# EAGLE library part ZOE-M8G (library ublox)
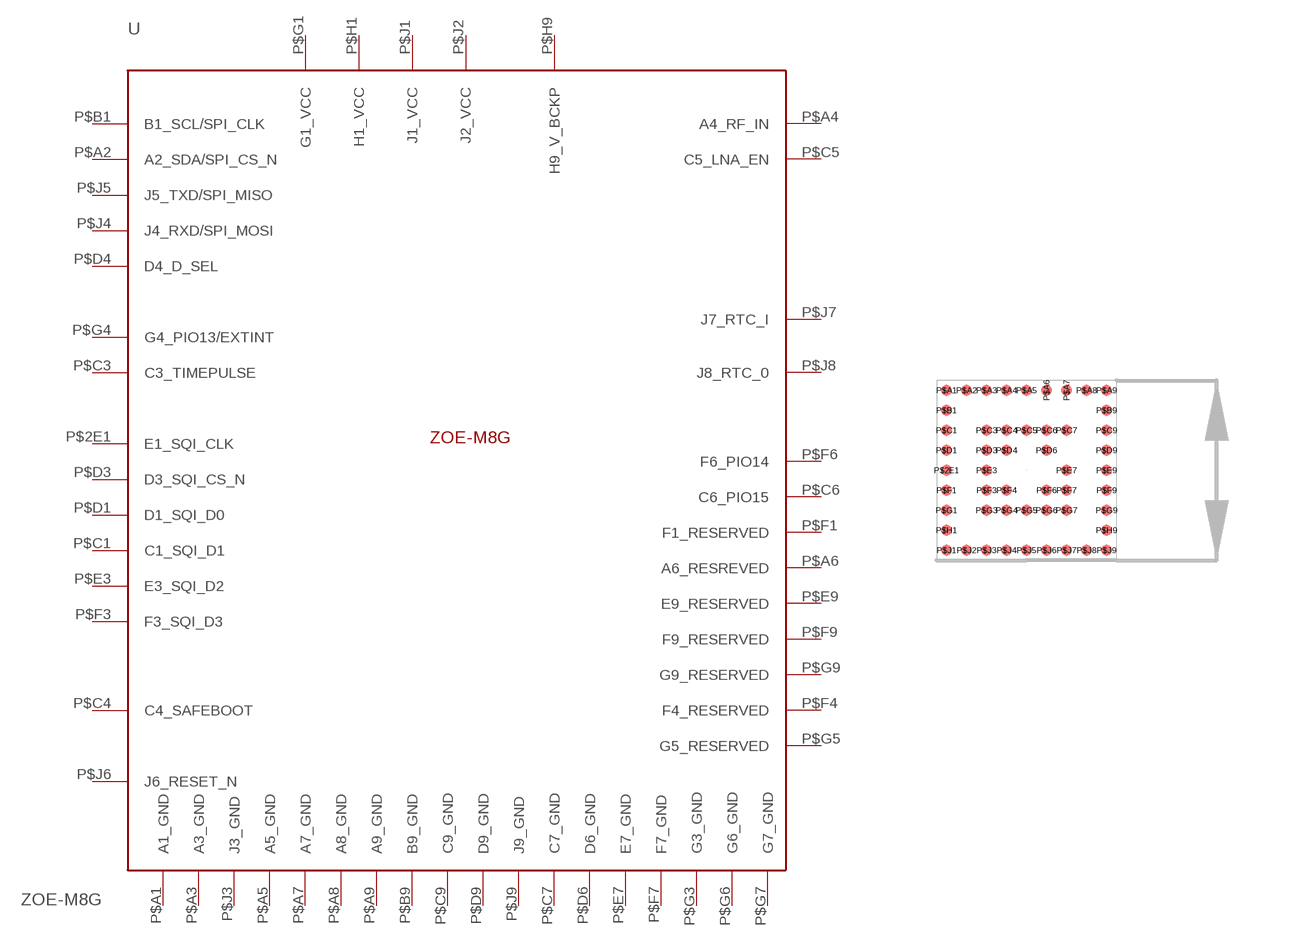
[diagram p21: symbol with the pads of ZOE-M8; footprint ZOE-M8]

Designator prefix -

## ZOE-M8G  [ZOE-M8]
P$2E1  E1_SQI_CLK
P$A1  A1_GND  pwr
P$A2  A2_SDA/SPI_CS_N
P$A3  A3_GND  pwr
P$A4  A4_RF_IN  in
P$A5  A5_GND  pwr
P$A6  A6_RESREVED
P$A7  A7_GND  pwr
P$A8  A8_GND  pwr
P$A9  A9_GND  pwr
P$B1  B1_SCL/SPI_CLK
P$B9  B9_GND  pwr
P$C1  C1_SQI_D1
P$C3  C3_TIMEPULSE
P$C4  C4_SAFEBOOT
P$C5  C5_LNA_EN
P$C6  C6_PIO15
P$C7  C7_GND  pwr
P$C9  C9_GND  pwr
P$D1  D1_SQI_D0
P$D3  D3_SQI_CS_N
P$D4  D4_D_SEL
P$D6  D6_GND  pwr
P$D9  D9_GND  pwr
P$E3  E3_SQI_D2
P$E7  E7_GND  pwr
P$E9  E9_RESERVED
P$F1  F1_RESERVED
P$F3  F3_SQI_D3
P$F4  F4_RESERVED
P$F6  F6_PIO14
P$F7  F7_GND  pwr
P$F9  F9_RESERVED
P$G1  G1_VCC  pwr
P$G3  G3_GND  pwr
P$G4  G4_PIO13/EXTINT
P$G5  G5_RESERVED
P$G6  G6_GND  pwr
P$G7  G7_GND  pwr
P$G9  G9_RESERVED
P$H1  H1_VCC  pwr
P$H9  H9_V_BCKP  pwr
P$J1  J1_VCC  pwr
P$J2  J2_VCC  pwr
P$J3  J3_GND  pwr
P$J4  J4_RXD/SPI_MOSI
P$J5  J5_TXD/SPI_MISO
P$J6  J6_RESET_N
P$J7  J7_RTC_I
P$J8  J8_RTC_0
P$J9  J9_GND  pwr

## Footprint ZOE-M8 (pad centres in mm)
smd 0.27 x 0.27: P$2E1 -2,0; P$A1 -2,2; P$A2 -1.5,2; P$A3 -1,2; P$A4 -0.5,2; P$A5 0,2; P$A6 0.5,2; P$A7 1,2; P$A8 1.5,2; P$A9 2,2; P$B1 -2,1.5; P$B9 2,1.5; P$C1 -2,1; P$C3 -1,1; P$C4 -0.5,1; P$C5 0,1; P$C6 0.5,1; P$C7 1,1; P$C9 2,1; P$D1 -2,0.5; P$D3 -1,0.5; P$D4 -0.5,0.5; P$D6 0.5,0.5; P$D9 2,0.5; P$E3 -1,0; P$E7 1,0; P$E9 2,0; P$F1 -2,-0.5; P$F3 -1,-0.5; P$F4 -0.5,-0.5; P$F6 0.5,-0.5; P$F7 1,-0.5; P$F9 2,-0.5; P$G1 -2,-1; P$G3 -1,-1; P$G4 -0.5,-1; P$G5 0,-1; P$G6 0.5,-1; P$G7 1,-1; P$G9 2,-1; P$H1 -2,-1.5; P$H9 2,-1.5; P$J1 -2,-2; P$J2 -1.5,-2; P$J3 -1,-2; P$J4 -0.5,-2; P$J5 0,-2; P$J6 0.5,-2; P$J7 1,-2; P$J8 1.5,-2; P$J9 2,-2